# Altium footprint library Capacitors_rus.PCBLIB: 349 footprints (part 17 of 22)
Each footprint in its own frame and in the unit in brackets; x right, y up, seen from the top. Pads: shape width x height; smd on the part's side, far side on the other; paste and mask are expansions set on the pad; w line width, h text height; cw(c..) or ccw(c..) is an arc to the next point about the centre after c.
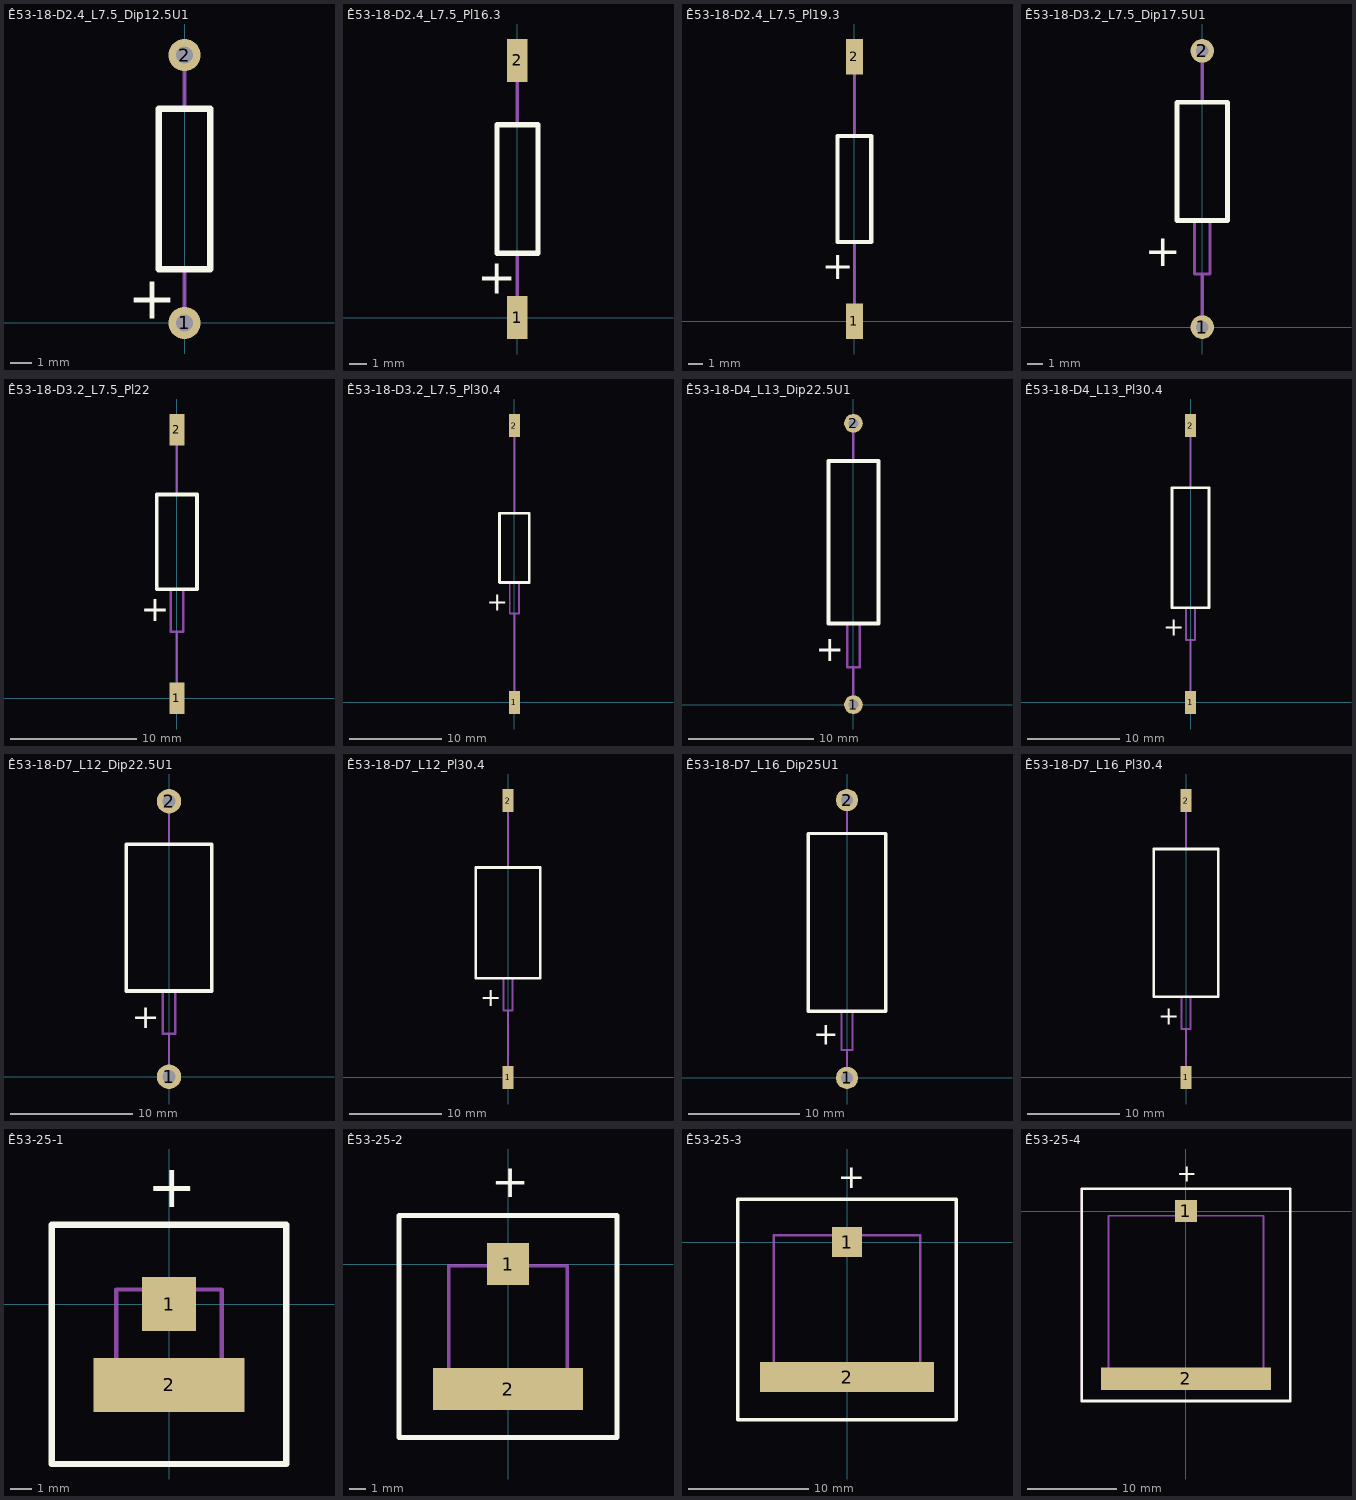
[diagram p16: the footprints below, top view; thin cyan lines are the x and y axes]

## Ê53-18-D2.4_L7.5_Dip12.5U1 [mm]
height 2.4
pads (2):
  round 1.5 hole 0.8: 1(0,0) 2(0,12.5)
Top Overlay:
  lines w0.3: -1.2,2.5 -1.2,10 1.2,10 1.2,2.5 -1.2,2.5
  text "+" at -2.65,0.2 h2
Mechanical 1:
  lines w0.2: 0,0 0,2.5 ; 0,9.98 0,12.5 ; -1.2,2.5 -1.2,10 1.2,10 1.2,2.5 -1.2,2.5
  text ".Designator" at 0.3,4.5 h1.5
  text "+" at -0.35,3 h1.5

## Ê53-18-D2.4_L7.5_Pl16.3 [mm]
height 2.4
pads (2):
  rect 1.2x2.5 smd: 1(0,0) 2(0,15)
Top Overlay:
  lines w0.3: -1.2,3.75 -1.2,11.25 1.2,11.25 1.2,3.75 -1.2,3.75
  text "+" at -2.35,1.4 h2
Mechanical 1:
  lines w0.2: 0,-0.65 0,3.75 ; 0,11.23 0,15.65 ; -1.2,3.75 -1.2,11.25 1.2,11.25 1.2,3.75 -1.2,3.75
  text ".Designator" at 0.35,5.1 h1.5
  text "+" at -0.35,4.1 h1.5

## Ê53-18-D2.4_L7.5_Pl19.3 [mm]
height 2.4
pads (2):
  rect 1.2x2.5 smd: 1(0,0) 2(0,18.75)
Top Overlay:
  lines w0.3: -1.2,5.625 -1.2,13.125 1.2,13.125 1.2,5.625 -1.2,5.625
  text "+" at -2.3,3 h2
Mechanical 1:
  lines w0.2: 0,-0.275 0,5.625 ; 0,13.125 0,19.025 ; -1.2,5.625 -1.2,13.125 1.2,13.125 1.2,5.625 -1.2,5.625
  text "+" at -0.3,6.1 h1.5
  text ".Designator" at 0.25,7.25 h1.5

## Ê53-18-D3.2_L7.5_Dip17.5U1 [mm]
height 3.7
pads (2):
  round 1.5 hole 0.8: 1(0,0) 2(0,17.5)
Top Overlay:
  lines w0.3: -1.6,6.75 1.6,6.75 1.6,14.25 -1.6,14.25 -1.6,6.75
  text "+" at -3.655,3.845 h2
Mechanical 1:
  lines w0.2: -0.5,6.75 -0.5,3.375 0.5,3.375 0.5,6.75 ; 0,0 0,3.375 ; 0,14.25 0,17.5 ; -1.6,6.75 1.6,6.75 1.6,14.25 -1.6,14.25 -1.6,6.75
  text ".Designator" at 0.35,8.8 h1.5
  text "+" at -0.35,7.15 h1.5

## Ê53-18-D3.2_L7.5_Pl22 [mm]
height 3.7
pads (2):
  rect 1.2x2.5 smd: 1(0,0) 2(0,21.25)
Top Overlay:
  lines w0.3: -1.6,8.625 -1.6,16.125 1.6,16.125 1.6,8.625 -1.6,8.625
  text "+" at -2.85,6.1 h2
Mechanical 1:
  lines w0.2: -0.5,8.625 -0.5,5.25 0.5,5.25 0.5,8.625 ; 0,-0.375 0,5.25 ; 0,16.125 0,21.625 ; -1.6,8.625 -1.6,16.125 1.6,16.125 1.6,8.625 -1.6,8.625
  text ".Designator" at 0.25,11 h1.5
  text "+" at -0.3,9.1 h1.5

## Ê53-18-D3.2_L7.5_Pl30.4 [mm]
height 3.7
pads (2):
  rect 1.2x2.5 smd: 1(0,0) 2(0,30)
Top Overlay:
  lines w0.3: -1.6,13 1.6,13 1.6,20.5 -1.6,20.5 -1.6,13
  text "+" at -2.981,9.95 h2
Mechanical 1:
  lines w0.2: -0.5,13 -0.5,9.625 0.5,9.625 0.5,13 ; 0,-0.2 0,9.625 ; 0,20.5 0,30.2 ; -1.6,13 1.6,13 1.6,20.5 -1.6,20.5 -1.6,13
  text "+" at -0.3,13.55 h1.5
  text ".Designator" at 0.2,14.75 h1.5

## Ê53-18-D4_L13_Dip22.5U1 [mm]
height 4.5
pads (2):
  round 1.5 hole 0.8: 1(0,0) 2(0,22.5)
Top Overlay:
  lines w0.3: -2,6.5 2,6.5 2,19.5 -2,19.5 -2,6.5
  text "+" at -3.03,3.47 h2
Mechanical 1:
  lines w0.2: -0.5,6.5 -0.5,3 0.5,3 0.5,6.5 ; 0,0 0,3 ; 0,19.5 0,22.5 ; -2,6.5 -2,19.5 2,19.5 2,6.5 -2,6.5
  text ".Designator" at 0.35,10.05 h1.5
  text "+" at -0.25,7.2 h1.5

## Ê53-18-D4_L13_Pl30.4 [mm]
height 4.5
pads (2):
  rect 1.2x2.5 smd: 1(0,0) 2(0,30)
Top Overlay:
  lines w0.3: -2,10.25 -2,23.25 2,23.25 2,10.25 -2,10.25
  text "+" at -2.981,7.2 h2
Mechanical 1:
  lines w0.2: -0.5,10.25 -0.5,6.75 0.5,6.75 0.5,10.25 ; 0,-0.2 0,6.75 ; 0,23.25 0,30.2 ; -2,10.25 -2,23.25 2,23.25 2,10.25 -2,10.25
  text "+" at -0.3,10.8 h1.5
  text ".Designator" at 0.25,14.05 h1.5

## Ê53-18-D7_L12_Dip22.5U1 [mm]
height 7.5
pads (2):
  round 2 hole 1.1: 1(0,0) 2(0,22.5)
Top Overlay:
  lines w0.3: -3.5,7 -3.5,19 3.5,19 3.5,7 -3.5,7
  text "+" at -3.03,3.97 h2
Mechanical 1:
  lines w0.2: -0.5,7 -0.5,3.5 0.5,3.5 0.5,7 ; 0,0 0,3.5 ; 0,19 0,22.5 ; -3.5,7 -3.5,19 3.5,19 3.5,7 -3.5,7
  text "+" at -0.25,7.75 h1.5
  text ".Designator" at 0.4,10.2 h1.5

## Ê53-18-D7_L12_Pl30.4 [mm]
height 7.5
pads (2):
  rect 1.2x2.5 smd: 1(0,0) 2(0,30)
Top Overlay:
  lines w0.3: -3.5,10.75 3.5,10.75 3.5,22.75 -3.5,22.75 -3.5,10.75
  text "+" at -2.981,7.7 h2
Mechanical 1:
  lines w0.2: -0.5,10.75 -0.5,7.25 0.5,7.25 0.5,10.75 ; 0,-0.2 0,7.25 ; 0,22.75 0,30.2 ; -3.5,10.75 3.5,10.75 3.5,22.75 -3.5,22.75 -3.5,10.75
  text "+" at -0.35,11.6 h1.5
  text ".Designator" at 0.05,14.45 h1.5

## Ê53-18-D7_L16_Dip25U1 [mm]
height 7.5
pads (2):
  round 2 hole 1.1: 1(0,0) 2(0,25)
Top Overlay:
  lines w0.3: -3.5,6 -3.5,22 3.5,22 3.5,6 -3.5,6
  text "+" at -3.03,2.97 h2
Mechanical 1:
  lines w0.2: -0.5,6 -0.5,2.5 0.5,2.5 0.5,6 ; 0,0 0,2.5 ; 0,22 0,25 ; -3.5,6 -3.5,22 3.5,22 3.5,6 -3.5,6
  text "+" at -0.25,6.75 h1.5
  text ".Designator" at 0.4,9.2 h1.5

## Ê53-18-D7_L16_Pl30.4 [mm]
height 7.5
pads (2):
  rect 1.2x2.5 smd: 1(0,0) 2(0,30)
Top Overlay:
  lines w0.3: -3.5,8.75 3.5,8.75 3.5,24.75 -3.5,24.75 -3.5,8.75
  text "+" at -2.981,5.7 h2
Mechanical 1:
  lines w0.2: -0.5,8.75 -0.5,5.25 0.5,5.25 0.5,8.75 ; 0,-0.2 0,5.25 ; 0,24.75 0,30.2 ; -3.5,8.75 3.5,8.75 3.5,24.75 -3.5,24.75 -3.5,8.75
  text "+" at -0.35,9.6 h1.5
  text ".Designator" at 0.05,14.45 h1.5

## Ê53-25-1 [mm]
pads (2):
  rect 2.5x2.5 smd: 1(0,0)
  rect 7x2.5 smd: 2(0,-3.75)
Top Overlay:
  lines w0.3: 5.45,-7.425 -5.45,-7.425 -5.45,3.675 5.45,3.675 5.45,-7.415
  text "+" at -1,4.5 h2
Mechanical 1:
  lines w0.2: -5.45,3.675 -5.45,-7.425 5.45,-7.425 5.45,3.675 -5.45,3.685 ; -2.45,-4.425 2.45,-4.425 2.45,0.675 -2.45,0.675 -2.45,-4.425
  text ".Designator" at -1.3,-1.85 h1.5
  text "+" at -0.268,-0.697 h1.5

## Ê53-25-2 [mm]
pads (2):
  rect 2.5x2.5 smd: 1(0,0)
  rect 9x2.5 smd: 2(0,-7.5)
Top Overlay:
  lines w0.3: -6.55,-10.4 6.55,-10.4 6.55,2.9 -6.55,2.9 -6.55,-10.4
  text "+" at -1,4 h2
Mechanical 1:
  lines w0.2: -6.55,-10.4 6.55,-10.4 6.55,2.9 -6.55,2.9 -6.55,-10.4 ; -3.55,-7.4 3.55,-7.4 3.55,-0.1 -3.55,-0.1 -3.55,-7.4
  text "+" at -0.5,-1.5 h1.5
  text ".Designator" at -2.15,-4.3 h1.5

## Ê53-25-3 [mm]
pads (2):
  rect 2.5x2.5 smd: 1(0,0)
  rect 14.5x2.5 smd: 2(0,-11.25)
Top Overlay:
  lines w0.3: -9.1,-14.825 9.1,-14.825 9.1,3.575 -9.1,3.575 -9.1,-14.825
  text "+" at -0.75,4.5 h2
Mechanical 1:
  lines w0.2: -9.1,-14.825 9.1,-14.825 9.1,3.575 -9.1,3.575 -9.1,-14.825 ; -6.1,-11.825 6.1,-11.825 6.1,0.575 -6.1,0.575 -6.1,-11.825
  text "+" at -0.25,-1 h1.5
  text ".Designator" at -2.3,-6 h1.5

## Ê53-25-4 [mm]
pads (2):
  rect 2.5x2.5 smd: 1(0,0)
  rect 19x2.5 smd: 2(0,-18.75)
Top Overlay:
  lines w0.3: 11.65,2.475 11.65,-21.225 -11.65,-21.225 -11.65,2.475 11.66,2.475
  text "+" at -1,3.25 h2
Mechanical 1:
  lines w0.2: -11.65,-21.225 11.65,-21.225 11.65,2.475 -11.65,2.475 -11.65,-21.225 ; -8.65,-18.225 8.65,-18.225 8.65,-0.525 -8.65,-0.525 -8.65,-18.225
  text "+" at -0.5,-2.25 h1.5
  text ".Designator" at -3.6,-9.5 h1.5